# Altium schematic symbol library ECS-160-8-36B2-CKM-TR.SchLib: 1 symbol
Pins are listed as number, name and electrical type; pins without a type are passive.

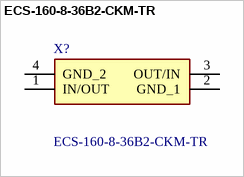
[diagram p0: symbol ECS-160-8-36B2-CKM-TR]

## ECS-160-8-36B2-CKM-TR
designator X?
Crystals 16.000 MHz 8 pF +/-10 +/-10 -20 +70 C +/-2 ppm Max. ESR = 70; Manufacturer_Name: ECS; Geometry.Height: 0.6mm; Mouser Part Number: 520-160-8-36B2-CKMTR; Mouser Price/Stock: https://www.mouser.co.uk/ProductDetail/ECS/ECS-160-8-36B2-CKM-TR?qs=QNEnbhJQKvaIQPndV3OLHg%3D%3D; Manufacturer_Part_Number: ECS-160-8-36B2-CKM-TR; Datasheet Link: https://www.mouser.fr/datasheet/2/122/ECX_2236B2-2400583.pdf
footprint ECS160836B2CKMTR
pins: 1 IN/OUT, 2 GND_1, 3 OUT/IN, 4 GND_2